# Altium footprint library MOLEX_5040500591.PcbLib: 1 footprints
Each footprint in its own frame and in the unit in brackets; x right, y up, seen from the top. Pads: shape width x height; smd on the part's side, far side on the other; paste and mask are expansions set on the pad; w line width, h text height; cw(c..) or ccw(c..) is an arc to the next point about the centre after c.
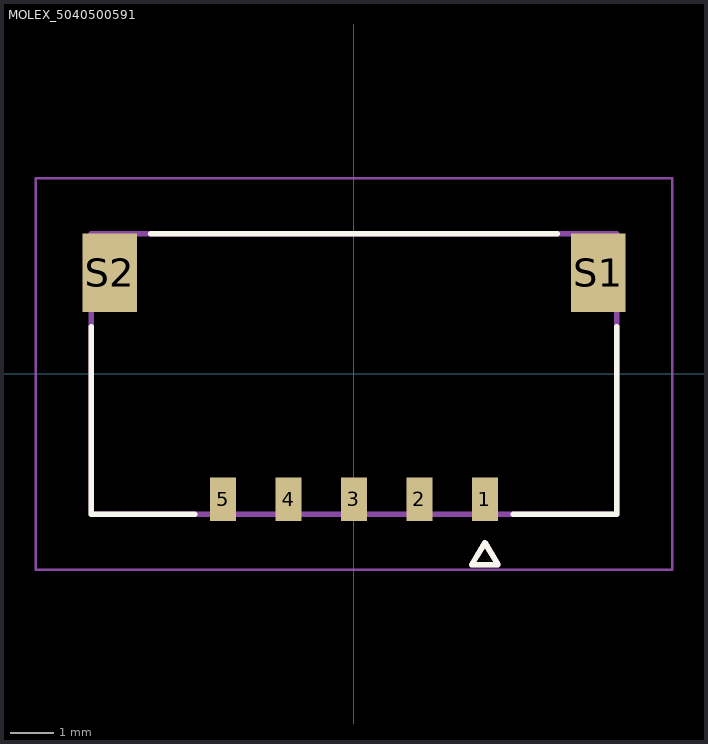
[diagram p0: the footprint, top view; thin cyan lines are the x and y axes]

## MOLEX_5040500591 [mm]
pads (7):
  rect 0.6x1 smd mask+0: 1(3,-2.87) 2(1.5,-2.87) 3(0,-2.87) 4(-1.5,-2.87) 5(-3,-2.87)
  rect 1.25x1.8 smd mask+0: S1(5.605,2.32) S2(-5.605,2.32)
Top Overlay:
  lines w0.127: -6.025,1.08 -6.025,-3.22 -3.65,-3.22 ; -4.66,3.22 4.66,3.22 ; 3.65,-3.22 6.025,-3.22 6.025,1.08 ; 2.7,-4.37 3,-3.87 3.3,-4.37 2.7,-4.37
Top Solder:
  region: -2.624,-3.446 -3.376,-3.446 -3.376,-2.294 -2.624,-2.294
  region: -1.124,-3.446 -1.876,-3.446 -1.876,-2.294 -1.124,-2.294
  region: 0.376,-3.446 -0.376,-3.446 -0.376,-2.294 0.376,-2.294
  region: -4.904,1.344 -6.306,1.344 -6.306,3.296 -4.904,3.296
  region: 1.876,-3.446 1.124,-3.446 1.124,-2.294 1.876,-2.294
  region: 6.306,1.344 4.904,1.344 4.904,3.296 6.306,3.296
  region: 3.376,-3.446 2.624,-3.446 2.624,-2.294 3.376,-2.294
Mechanical 13:
  lines w0.127: -6.025,-3.22 -6.025,3.22 6.025,3.22 6.025,-3.22 -6.025,-3.22 ; 2.7,-4.37 3,-3.87 3.3,-4.37 2.7,-4.37
Mechanical 15:
  lines w0.05: -7.295,-4.49 7.295,-4.49 7.295,4.49 -7.295,4.49 -7.295,-4.49
3D body "5040500591.stp": height 1.97, standoff -0.03, extent -6.025,-3.175 6.025,3.265